# EAGLE library part LT3689 (library PowerProducts)
LT-Spice library generated with : ltspice.ulp from: D:/Program Files (x86)/LTC/LTspiceIV/lib/sym/PowerProducts/LT3694*.asy at 07.10.2012 16:35:03
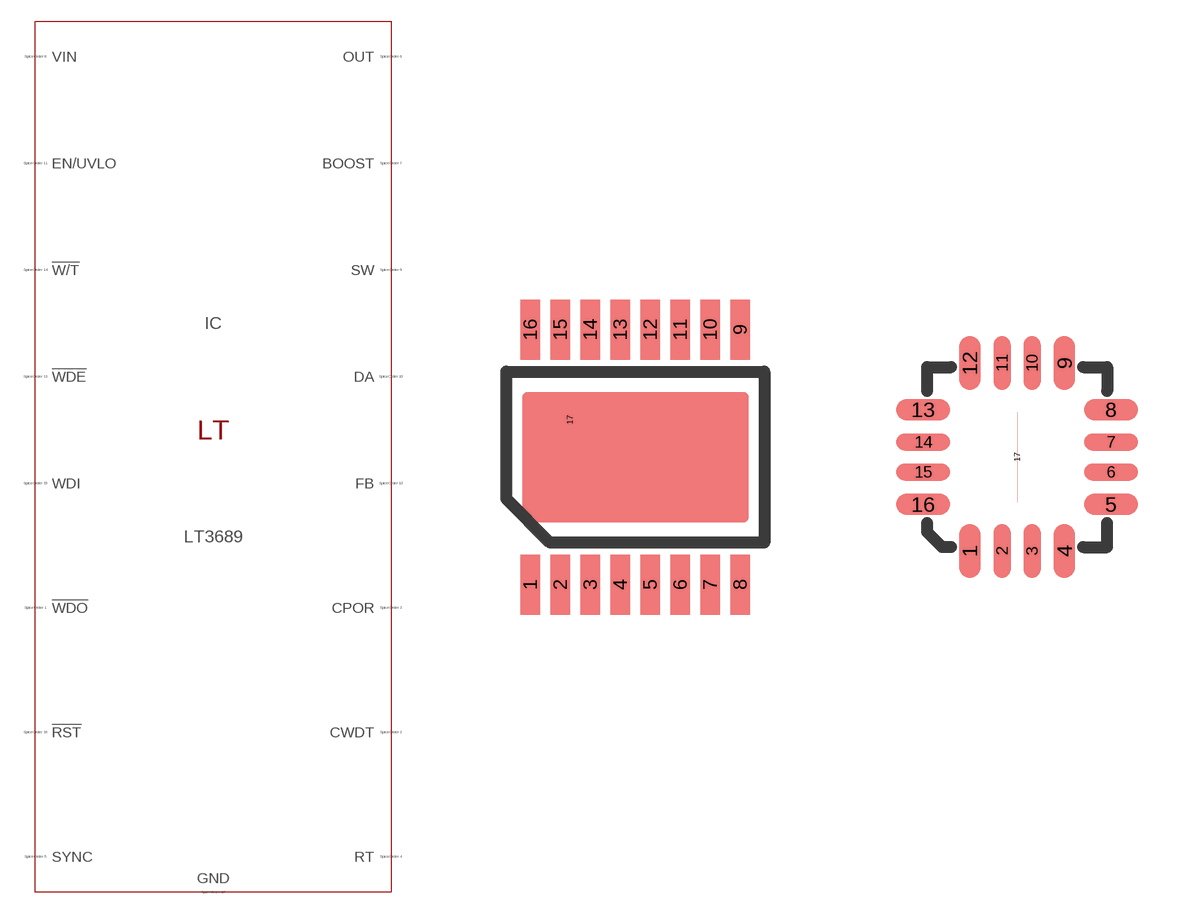
[diagram p88: symbol with the pads of MSOP16(MSE); footprints MSOP16(MSE), QFN16(UD)]

Designator prefix IC

## LT3689 (SPICEMODEL: LT3689.sub; SPICEPREFIX: X; VALUE2: LT3689)  [MSOP16(MSE)]
1  !WDO  pas
2  CWDT  pas
3  CPOR  pas
4  RT  pas
5  SYNC  pas
6  OUT  pas
7  BOOST  pas
8  VIN  pas
9  SW  pas
10  DA  pas
11  EN/UVLO  pas
12  FB  pas
13  !WDE  pas
14  !W/T  pas
15  WDI  pas
16  !RST  pas
17  GND  pas

## LT3689UD (SPICEMODEL: LT3689.sub; SPICEPREFIX: X; VALUE2: LT3689)  [QFN16(UD)]
1  BOOST  pas
2  VIN  pas
3  SW  pas
4  DA  pas
5  EN/UVLO  pas
6  FB  pas
7  !WDE  pas
8  !W/T  pas
9  WDI  pas
10  !RST  pas
11  !WDO  pas
12  CWDT  pas
13  CPOR  pas
14  RT  pas
15  SYNC  pas
16  OUT  pas
17  GND  pas

## Footprint MSOP16(MSE) (pad centres in mm)
Package generated from: MSOP16(MSE).asc (!PADS-POWERPCB-V9.3-BASIC! DESIGN DATABASE ASCII FILE 1.0) with :import-pads-powerpcb-v5.ulp Version 1.0.1 at 04.10.2012 14:11:19
smd 0.495 x 1.5: 1 -2.625,-3.188; 2 -1.875,-3.188; 3 -1.125,-3.188; 4 -0.375,-3.188; 5 0.375,-3.188; 6 1.125,-3.188; 7 1.875,-3.188; 8 2.625,-3.188; 9 2.625,3.188; 10 1.875,3.188; 11 1.125,3.188; 12 0.375,3.188; 13 -0.375,3.188; 14 -1.125,3.188; 15 -1.875,3.188; 16 -2.625,3.188
smd 0 x 0.525: 17 -1.635,0.93

## Footprint QFN16(UD) (pad centres in mm)
Package generated from: QFN16(UD).asc (!PADS-POWERPCB-V9.3-BASIC! DESIGN DATABASE ASCII FILE 1.0) with :import-pads-powerpcb-v5.ulp Version 1.0.1 at 04.10.2012 14:11:23
smd 0.54 x 1.35: 1 -1.185,-2.348; 4 1.185,-2.348; 9 1.185,2.348; 12 -1.185,2.348
smd 0.42 x 1.35: 2 -0.375,-2.348; 3 0.375,-2.348; 10 0.375,2.348; 11 -0.375,2.348
smd 1.35 x 0.54: 5 2.348,-1.185; 8 2.348,1.185; 13 -2.348,1.185; 16 -2.348,-1.185
smd 1.35 x 0.42: 6 2.348,-0.375; 7 2.348,0.375; 14 -2.348,0.375; 15 -2.348,-0.375
smd 0 x 2.25: 17 0,0